# Altium schematic symbol library MCP16502TAC-ES8B.SchLib: 2 symbols
Pins are listed as number, name and electrical type; pins without a type are passive.

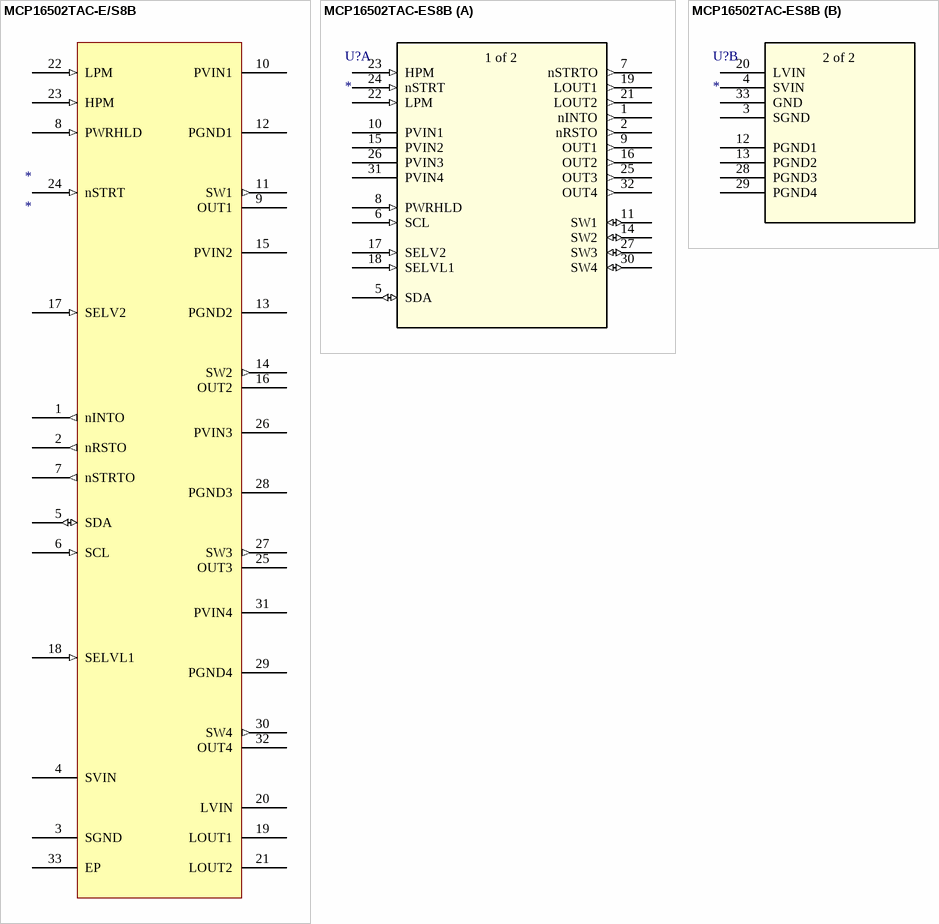
[diagram p0: symbols MCP16502TAC-E/S8B to MCP16502TAC-ES8B]

## MCP16502TAC-E/S8B
designator *
footprint VQFN32_S8B_MCH
pins: 1 nINTO (out), 2 nRSTO (out), 3 SGND (power), 4 SVIN (power), 5 SDA (io), 6 SCL (in), 7 nSTRTO (out), 8 PWRHLD (in), 9 OUT1 (power), 10 PVIN1 (power), 11 SW1 (out), 12 PGND1 (power), 13 PGND2 (power), 14 SW2 (out), 15 PVIN2 (power), 16 OUT2 (power), 17 SELV2 (in), 18 SELVL1 (in), 19 LOUT1 (power), 20 LVIN (power), 21 LOUT2 (power), 22 LPM (in), 23 HPM (in), 24 nSTRT (in), 25 OUT3 (power), 26 PVIN3 (power), 27 SW3 (out), 28 PGND3 (power), 29 PGND4 (power), 30 SW4 (out), 31 PVIN4 (power), 32 OUT4 (power), 33 EP (power)

## MCP16502TAC-ES8B
designator U?
No Description Available; Mfr_Name: Microchip; RefDes: RefDes; Type: Type
footprint VQFN32_S8B_MCH
part A pins: 1 nINTO (out), 2 nRSTO (out), 5 SDA (io), 6 SCL (in), 7 nSTRTO (out), 8 PWRHLD (in), 9 OUT1 (out), 10 PVIN1 (power), 11 SW1 (io), 14 SW2 (io), 15 PVIN2 (power), 16 OUT2 (out), 17 SELV2 (in), 18 SELVL1 (in), 19 LOUT1 (out), 21 LOUT2 (out), 22 LPM (in), 23 HPM (in), 24 nSTRT (in), 25 OUT3 (out), 26 PVIN3 (power), 27 SW3 (io), 30 SW4 (io), 31 PVIN4 (power), 32 OUT4 (out)
part B pins: 3 SGND (power), 4 SVIN (power), 12 PGND1 (power), 13 PGND2 (power), 20 LVIN (power), 28 PGND3 (power), 29 PGND4 (power), 33 GND (power)
part A text: 1 of 2
part B text: 2 of 2